# EAGLE library part W25Q80EWUXIE (library EagleLibrary)
Winbond 8 Mbit SPI Flash
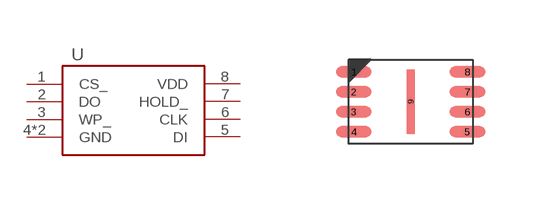
[diagram p16: symbol with the pads of W25Q80EWUXIE; footprint W25Q80EWUXIE]

Designator prefix U

## W25Q80EWUXIE (MFG: Winbond; PN: W25Q80EWUXIE)  [W25Q80EWUXIE]
1  CS_
2  DO
3  WP_
4  GND
5  DI
6  CLK
7  HOLD_
8  VDD
9  GND

## Footprint W25Q80EWUXIE (pad centres in mm)
8-SON (DFN), 0.50 mm pitch, 2.00 X 3.00 X 0.80 mm body, 1.60 X 0.20 mm thermal pad 8-pin SON (DFN) package with 0.50 mm pitch with body size 2.00 X 3.00 X 0.80 mm and thermal pad size 1.60 X 0.20 mm
smd 0.888 x 0.27: 1 -1.421,0.75; 2 -1.421,0.25; 3 -1.421,-0.25; 4 -1.421,-0.75; 5 1.421,-0.75; 6 1.421,-0.25; 7 1.421,0.25; 8 1.421,0.75
smd 0.2 x 1.6: 9 0,0